# EAGLE library part TMM (library MyParts)
LOW PROFILE, .020" (.51MM) SQUARE POST TERMINAL STRIP
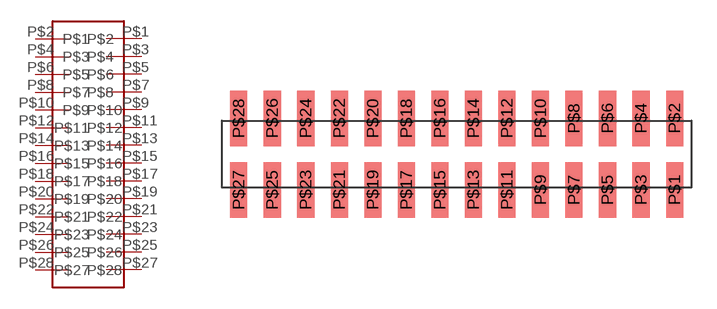
[diagram p13: symbol with the pads of TMM-DUALROWX28; footprint TMM-DUALROWX28]

Designator prefix -

## TMM128-01-L-D-SM  [TMM-DUALROWX28]
P$1  P$1
P$2  P$2
P$3  P$3
P$4  P$4
P$5  P$5
P$6  P$6
P$7  P$7
P$8  P$8
P$9  P$9
P$10  P$10
P$11  P$11
P$12  P$12
P$13  P$13
P$14  P$14
P$15  P$15
P$16  P$16
P$17  P$17
P$18  P$18
P$19  P$19
P$20  P$20
P$21  P$21
P$22  P$22
P$23  P$23
P$24  P$24
P$25  P$25
P$26  P$26
P$27  P$27
P$28  P$28

## Footprint TMM-DUALROWX28 (pad centres in mm)
smd 1.02 x 3.3: P$1 13,-2.135; P$2 13,2.135; P$3 11,-2.135; P$4 11,2.135; P$5 9,-2.135; P$6 9,2.135; P$7 7,-2.135; P$8 7,2.135; P$9 5,-2.135; P$10 5,2.135; P$11 3,-2.135; P$12 3,2.135; P$13 1,-2.135; P$14 1,2.135; P$15 -1,-2.135; P$16 -1,2.135; P$17 -3,-2.135; P$18 -3,2.135; P$19 -5,-2.135; P$20 -5,2.135; P$21 -7,-2.135; P$22 -7,2.135; P$23 -9,-2.135; P$24 -9,2.135; P$25 -11,-2.135; P$26 -11,2.135; P$27 -13,-2.135; P$28 -13,2.135